# Altium footprint library Mechanical_Connectors_Terminal_Pluggable_3.81_Board_TH.PcbLib: 3 footprints
Each footprint in its own frame and in the unit in brackets; x right, y up, seen from the top. Pads: shape width x height; smd on the part's side, far side on the other; paste and mask are expansions set on the pad; w line width, h text height; cw(c..) or ccw(c..) is an arc to the next point about the centre after c.
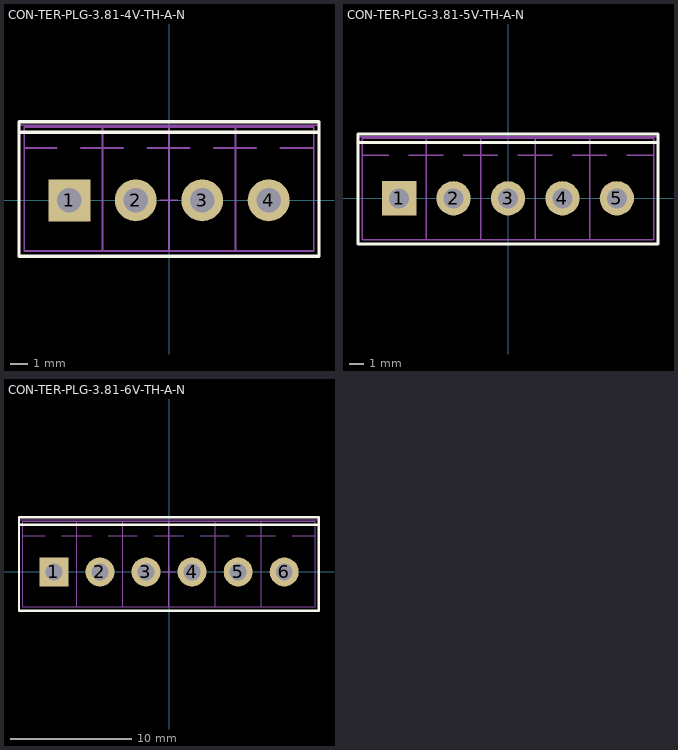
[diagram p0: the footprints below, top view; thin cyan lines are the x and y axes]

## CON-TER-PLG-3.81-4V-TH-A-N [mm]
height 8.15
pads (4):
  rect 2.4x2.4 hole 1.4: 1(-5.715,0)
  round 2.4 hole 1.4: 2(-1.905,0) 3(1.905,0) 4(5.715,0)
Top Overlay:
  lines w0.2: -8.6,3.9 8.595,3.9 ; -8.6,-3.2 -8.6,4.5 8.6,4.5 8.6,-3.2 -8.6,-3.2
Top Package:
  circle w0.1: c-5.715,0 r0.5
  circle w0.1: c-1.905,0 r0.5
  circle w0.1: c5.715,0 r0.5
  circle w0.1: c1.905,0 r0.5
  lines w0.1: -8.29,3 -6.44,3 ; -5.04,3 -3.81,3 ; -3.81,-2.9 -3.81,4.2 ; -1.23,3 0,3 ; -0.02,3 1.18,3 ; 0,-2.9 0,4.2 ; 2.58,3 3.81,3 ; 3.79,3 4.99,3 ; 3.81,-2.9 3.81,4.2 ; 6.39,3 8.29,3 ; -8.3,-2.9 8.3,-2.9 8.3,4.2 -8.3,4.2 -8.3,-2.9 ; -3.83,3 -2.63,3 -3.83,3
Top Comment:
  text ".Comment" at -2.835,-2.836 h2
Top Designator:
  text ".Designator" at -4.304,-2.783 h2.5
Top Border:
  lines w0.1: -0.505,0 0.495,0 ; -0.005,-0.5 -0.005,0.5 ; -8.6,-3.2 -8.6,4.3 8.6,4.3 8.6,-3.2 -8.6,-3.2 ; -0.513,0 0.503,0 -0.513,0 ; -0.005,-0.508 -0.005,0.508 -0.005,-0.508
3D body "User Library-1803442.STEP": height 9.2, standoff -3.4, extent -8.315,-2.95 8.315,4.3

## CON-TER-PLG-3.81-5V-TH-A-N [mm]
height 8.15
pads (5):
  rect 2.4x2.4 hole 1.4: 1(-7.62,0)
  round 2.4 hole 1.4: 2(-3.81,0) 3(0,0) 4(3.81,0) 5(7.62,0)
Top Overlay:
  lines w0.2: -10.5,3.9 10.5,3.9 ; -10.5,-3.2 -10.5,4.5 10.5,4.5 10.5,-3.2 -10.5,-3.2
Top Package:
  circle w0.1: c-7.62,0 r0.5
  circle w0.1: c-3.81,0 r0.5
  circle w0.1: c0,0 r0.5
  circle w0.1: c3.81,0 r0.5
  circle w0.1: c7.62,0 r0.5
  lines w0.1: -10.2,3 -8.345,3 ; -6.945,3 -5.715,3 ; -5.735,3 -4.535,3 ; -5.715,-2.9 -5.715,4.2 ; -3.135,3 -1.905,3 ; -1.925,3 -0.725,3 ; -1.905,-2.9 -1.905,4.2 ; 0.675,3 1.905,3 ; 1.885,3 3.085,3 ; 1.905,-2.9 1.905,4.2 ; 4.485,3 5.715,3 ; 5.695,3 6.895,3 ; 5.715,-2.9 5.715,4.2 ; 8.295,3 10.2,3 ; -10.2,-2.9 -10.2,4.2 10.2,4.2 10.2,-2.9 -10.2,-2.9
Top Comment:
  text ".Comment" at -2.835,-2.891 h2
Top Designator:
  text ".Designator" at -4.304,-2.838 h2.5
Top Border:
  lines w0.1: -0.5,0 0.5,0 ; 0,-0.5 0,0.5 ; -10.5,-3.2 -10.5,4.3 10.5,4.3 10.5,-3.2 -10.5,-3.2 ; -0.508,0 0.508,0 -0.508,0 ; 0,-0.508 0,0.508 0,-0.508
3D body "1707036.stp": height 9.2, standoff -1.4, extent -10.22,-2.95 10.22,4.3

## CON-TER-PLG-3.81-6V-TH-A-N [mm]
height 8.15
pads (6):
  rect 2.4x2.4 hole 1.4: 1(-9.525,0)
  round 2.4 hole 1.4: 2(-5.715,0) 3(-1.905,0) 4(1.905,0) 5(5.715,0) 6(9.525,0)
Top Overlay:
  lines w0.2: -12.405,3.9 12.4,3.9 ; -12.405,-3.2 12.395,-3.2 12.395,4.5 -12.405,4.5 -12.405,-3.2
Top Package:
  circle w0.1: c9.52,0 r0.5
  circle w0.1: c5.71,0 r0.5
  circle w0.1: c1.9,0 r0.5
  circle w0.1: c-1.91,0 r0.5
  circle w0.1: c-5.72,0 r0.5
  circle w0.1: c-9.53,0 r0.5
  lines w0.1: -12.105,3 -10.255,3 ; -8.855,3 -7.625,3 ; -7.645,3 -6.445,3 ; -7.625,-2.9 -7.625,4.2 ; -5.045,3 -3.815,3 ; -3.835,3 -2.635,3 ; -3.815,-2.9 -3.815,4.2 ; -1.235,3 -0.005,3 ; -0.025,3 1.175,3 ; -0.005,-2.9 -0.005,4.2 ; 2.575,3 3.805,3 ; 3.785,3 4.985,3 ; 3.805,-2.9 3.805,4.2 ; 6.385,3 7.615,3 ; 7.595,3 8.795,3 ; 7.615,-2.9 7.615,4.2 ; 10.195,3 12.095,3 ; -12.105,-2.9 12.095,-2.9 12.095,4.2 -12.105,4.2 -12.105,-2.9
Top Comment:
  text ".Comment" at -2.835,-2.891 h2
Top Designator:
  text ".Designator" at -4.304,-2.838 h2.5
Top Border:
  lines w0.1: -0.5,0 0.5,0 ; 0,-0.5 0,0.5 ; -12.405,-3.2 -12.405,4.3 12.395,4.3 12.395,-3.2 -12.405,-3.2 ; -0.508,0 0.508,0 -0.508,0 ; 0,-0.508 0,0.508 0,-0.508
3D body "User Library-1803468.STEP": height 9.2, standoff -3.4, extent -12.13,-2.95 12.12,4.3